# Altium schematic symbol library WR-WTB_1.00mm.SchLib: 14 symbols
Pins are listed as number, name and electrical type; pins without a type are passive.

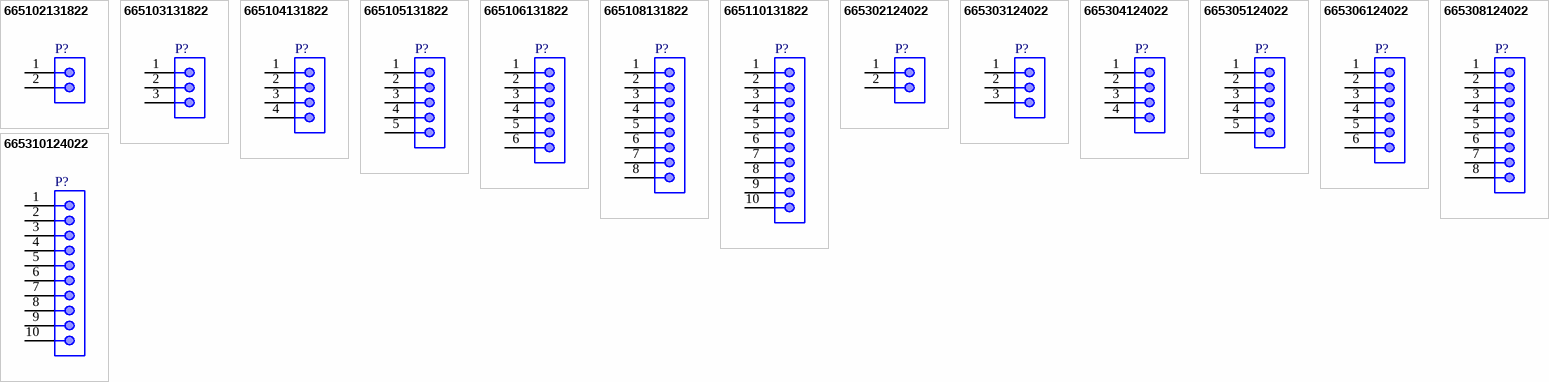
[diagram p0: symbols 665102131822 to 665310124022]

## 665102131822
designator P?
WR-WTB SMT Male Horizontal Shrouded Header, pitch 1mm, 2p; Part Number: 665102131822; Pin Number: 2; Contact Resistance: 20mOhm; Rated Current: 1A; Withstanding Voltage: 500VAC; Working Voltage: 50VAC; ComponentLink1Description: Manufacturer; ComponentLink1URL: http://www.we-online.de; ComponentLink2Description: Datasheet; ComponentLink2URL: https://www.we-online.com/catalog/datasheet/665102131822.pdf; Pitch: 1mm; Published Date: January 2020; Publisher: Wurth Elektronik; Mounting Technology: SMT; Packaging: Tape and Reel; Operating Temperature: -25 to +85degC; Gender: Male; Type: Horizontal
footprint 665102131822
pins: 1, 2

## 665103131822
designator P?
WR-WTB SMT Male Horizontal Shrouded Header, pitch 1mm, 3p; Part Number: 665103131822; Pin Number: 3; Contact Resistance: 20mOhm; Rated Current: 1A; Withstanding Voltage: 500VAC; Working Voltage: 50VAC; ComponentLink1Description: Manufacturer; ComponentLink1URL: http://www.we-online.de; ComponentLink2Description: Datasheet; ComponentLink2URL: https://www.we-online.com/catalog/datasheet/665103131822.pdf; Pitch: 1mm; Published Date: January 2020; Publisher: Wurth Elektronik; Mounting Technology: SMT; Packaging: Tape and Reel; Operating Temperature: -25 to +85degC; Gender: Male; Type: Horizontal
footprint 665103131822
pins: 1, 2, 3

## 665104131822
designator P?
WR-WTB SMT Male Horizontal Shrouded Header, pitch 1mm, 4p; Part Number: 665104131822; Pin Number: 4; Contact Resistance: 20mOhm; Rated Current: 1A; Withstanding Voltage: 500VAC; Working Voltage: 50VAC; ComponentLink1Description: Manufacturer; ComponentLink1URL: http://www.we-online.de; ComponentLink2Description: Datasheet; ComponentLink2URL: https://www.we-online.com/catalog/datasheet/665104131822.pdf; Pitch: 1mm; Published Date: January 2020; Publisher: Wurth Elektronik; Mounting Technology: SMT; Packaging: Tape and Reel; Operating Temperature: -25 to +85degC; Gender: Male; Type: Horizontal
footprint 665104131822
pins: 1, 2, 3, 4

## 665105131822
designator P?
WR-WTB SMT Male Horizontal Shrouded Header, pitch 1mm, 5p; Part Number: 665105131822; Pin Number: 5; Contact Resistance: 20mOhm; Rated Current: 1A; Withstanding Voltage: 500VAC; Working Voltage: 50VAC; ComponentLink1Description: Manufacturer; ComponentLink1URL: http://www.we-online.de; ComponentLink2Description: Datasheet; ComponentLink2URL: https://www.we-online.com/catalog/datasheet/665105131822.pdf; Pitch: 1mm; Published Date: January 2020; Publisher: Wurth Elektronik; Mounting Technology: SMT; Packaging: Tape and Reel; Operating Temperature: -25 to +85degC; Gender: Male; Type: Horizontal
footprint 665105131822
pins: 1, 2, 3, 4, 5

## 665106131822
designator P?
WR-WTB SMT Male Horizontal Shrouded Header, pitch 1mm, 6p; Part Number: 665106131822; Pin Number: 6; Contact Resistance: 20mOhm; Rated Current: 1A; Withstanding Voltage: 500VAC; Working Voltage: 50VAC; ComponentLink1Description: Manufacturer; ComponentLink1URL: http://www.we-online.de; ComponentLink2Description: Datasheet; ComponentLink2URL: https://www.we-online.com/catalog/datasheet/665106131822.pdf; Pitch: 1mm; Published Date: January 2020; Publisher: Wurth Elektronik; Mounting Technology: SMT; Packaging: Tape and Reel; Operating Temperature: -25 to +85degC; Gender: Male; Type: Horizontal
footprint 665106131822
pins: 1, 2, 3, 4, 5, 6

## 665108131822
designator P?
WR-WTB SMT Male Horizontal Shrouded Header, pitch 1mm, 8p; Part Number: 665108131822; Pin Number: 8; Contact Resistance: 20mOhm; Rated Current: 1A; Withstanding Voltage: 500VAC; Working Voltage: 50VAC; ComponentLink1Description: Manufacturer; ComponentLink1URL: http://www.we-online.de; ComponentLink2Description: Datasheet; ComponentLink2URL: https://www.we-online.com/catalog/datasheet/665108131822.pdf; Pitch: 1mm; Published Date: January 2020; Publisher: Wurth Elektronik; Mounting Technology: SMT; Packaging: Tape and Reel; Operating Temperature: -25 to +85degC; Gender: Male; Type: Horizontal
footprint 665108131822
pins: 1, 2, 3, 4, 5, 6, 7, 8

## 665110131822
designator P?
WR-WTB SMT Male Horizontal Shrouded Header, pitch 1mm, 10p; Part Number: 665110131822; Pin Number: 10; Contact Resistance: 20mOhm; Rated Current: 1A; Withstanding Voltage: 500VAC; Working Voltage: 50VAC; ComponentLink1Description: Manufacturer; ComponentLink1URL: http://www.we-online.de; ComponentLink2Description: Datasheet; ComponentLink2URL: https://www.we-online.com/catalog/datasheet/665110131822.pdf; Pitch: 1mm; Published Date: January 2020; Publisher: Wurth Elektronik; Mounting Technology: SMT; Packaging: Tape and Reel; Operating Temperature: -25 to +85degC; Gender: Male; Type: Horizontal
footprint 665110131822
pins: 1, 2, 3, 4, 5, 6, 7, 8, 9, 10

## 665302124022
designator P?
WR-WTB SMT Male Vertical Shrouded Header, pitch 1mm, 2p; Part Number: 665302124022; Pin Number: 2; Contact Resistance: 20mOhm; Rated Current: 1A; Withstanding Voltage: 500VAC; Working Voltage: 50VAC; ComponentLink1Description: Manufacturer; ComponentLink1URL: http://www.we-online.de; ComponentLink2Description: Datasheet; ComponentLink2URL: https://www.we-online.com/catalog/datasheet/665302124022.pdf; Pitch: 1mm; Published Date: January 2020; Publisher: Wurth Elektronik; Mounting Technology: SMT; Packaging: Tape and Reel; Operating Temperature: -25 to +85degC; Gender: Male; Type: Vertical
footprint 665302124022
pins: 1, 2

## 665303124022
designator P?
WR-WTB SMT Male Vertical Shrouded Header, pitch 1mm, 3p; Part Number: 665303124022; Pin Number: 3; Contact Resistance: 20mOhm; Rated Current: 1A; Withstanding Voltage: 500VAC; Working Voltage: 50VAC; ComponentLink1Description: Manufacturer; ComponentLink1URL: http://www.we-online.de; ComponentLink2Description: Datasheet; ComponentLink2URL: https://www.we-online.com/catalog/datasheet/665303124022.pdf; Pitch: 1mm; Published Date: January 2020; Publisher: Wurth Elektronik; Mounting Technology: SMT; Packaging: Tape and Reel; Operating Temperature: -25 to +85degC; Gender: Male; Type: Vertical
footprint 665303124022
pins: 1, 2, 3

## 665304124022
designator P?
WR-WTB SMT Male Vertical Shrouded Header, pitch 1mm, 4p; Part Number: 665304124022; Pin Number: 4; Contact Resistance: 20mOhm; Rated Current: 1A; Withstanding Voltage: 500VAC; Working Voltage: 50VAC; ComponentLink1Description: Manufacturer; ComponentLink1URL: http://www.we-online.de; ComponentLink2Description: Datasheet; ComponentLink2URL: https://www.we-online.com/catalog/datasheet/665304124022.pdf; Pitch: 1mm; Published Date: January 2020; Publisher: Wurth Elektronik; Mounting Technology: SMT; Packaging: Tape and Reel; Operating Temperature: -25 to +85degC; Gender: Male; Type: Vertical
footprint 665304124022
pins: 1, 2, 3, 4

## 665305124022
designator P?
WR-WTB SMT Male Vertical Shrouded Header, pitch 1mm, 5p; Part Number: 665305124022; Pin Number: 5; Contact Resistance: 20mOhm; Rated Current: 1A; Withstanding Voltage: 500VAC; Working Voltage: 50VAC; ComponentLink1Description: Manufacturer; ComponentLink1URL: http://www.we-online.de; ComponentLink2Description: Datasheet; ComponentLink2URL: https://www.we-online.com/catalog/datasheet/665305124022.pdf; Pitch: 1mm; Published Date: January 2020; Publisher: Wurth Elektronik; Mounting Technology: SMT; Packaging: Tape and Reel; Operating Temperature: -25 to +85degC; Gender: Male; Type: Vertical
footprint 665305124022
pins: 1, 2, 3, 4, 5

## 665306124022
designator P?
WR-WTB SMT Male Vertical Shrouded Header, pitch 1mm, 6p; Part Number: 665306124022; Pin Number: 6; Contact Resistance: 20mOhm; Rated Current: 1A; Withstanding Voltage: 500VAC; Working Voltage: 50VAC; ComponentLink1Description: Manufacturer; ComponentLink1URL: http://www.we-online.de; ComponentLink2Description: Datasheet; ComponentLink2URL: https://www.we-online.com/catalog/datasheet/665306124022.pdf; Pitch: 1mm; Published Date: January 2020; Publisher: Wurth Elektronik; Mounting Technology: SMT; Packaging: Tape and Reel; Operating Temperature: -25 to +85degC; Gender: Male; Type: Vertical
footprint 665306124022
pins: 1, 2, 3, 4, 5, 6

## 665308124022
designator P?
WR-WTB SMT Male Vertical Shrouded Header, pitch 1mm, 8p; Part Number: 665308124022; Pin Number: 8; Contact Resistance: 20mOhm; Rated Current: 1A; Withstanding Voltage: 500VAC; Working Voltage: 50VAC; ComponentLink1Description: Manufacturer; ComponentLink1URL: http://www.we-online.de; ComponentLink2Description: Datasheet; ComponentLink2URL: https://www.we-online.com/catalog/datasheet/665308124022.pdf; Pitch: 1mm; Published Date: January 2020; Publisher: Wurth Elektronik; Mounting Technology: SMT; Packaging: Tape and Reel; Operating Temperature: -25 to +85degC; Gender: Male; Type: Vertical
footprint 665308124022
pins: 1, 2, 3, 4, 5, 6, 7, 8

## 665310124022
designator P?
WR-WTB SMT Male Vertical Shrouded Header, pitch 1mm, 10p; Part Number: 665310124022; Pin Number: 10; Contact Resistance: 20mOhm; Rated Current: 1A; Withstanding Voltage: 500VAC; Working Voltage: 50VAC; ComponentLink1Description: Manufacturer; ComponentLink1URL: http://www.we-online.de; ComponentLink2Description: Datasheet; ComponentLink2URL: https://www.we-online.com/catalog/datasheet/665310124022.pdf; Pitch: 1mm; Published Date: January 2020; Publisher: Wurth Elektronik; Mounting Technology: SMT; Packaging: Tape and Reel; Operating Temperature: -25 to +85degC; Gender: Male; Type: Vertical
footprint 665310124022
pins: 1, 2, 3, 4, 5, 6, 7, 8, 9, 10